# EAGLE library part DPDT_RELAY_PANASONIC_JW2SN-DC9V (library HyTechDevices)
Double Pull Double Throw Relay 9VDC Datasheet <http://www.mouser.com/ds/2/316/jw-catalog-461998.pdf> Product Page <http://www.mouser.com/ProductDetail/Panasonic-Industrial-Devices/JW2SN-DC9V>
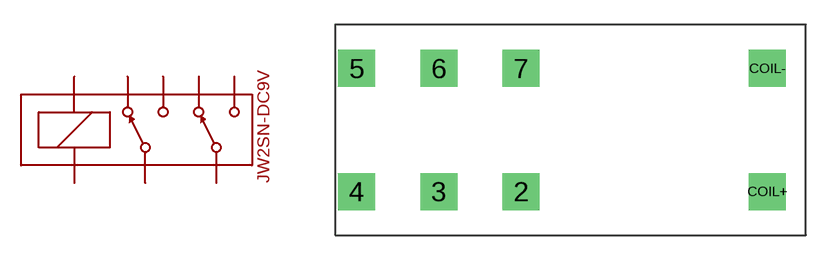
[diagram p7: symbol with the pads of DPDT_RELAY_PANASONIC_JW2SN; footprint DPDT_RELAY_PANASONIC_JW2SN]

Designator prefix -

## DPDT_RELAY_PANASONIC_JW2SN-DC9V  [DPDT_RELAY_PANASONIC_JW2SN]
2  2
3  3
4  4
5  5
6  6
7  7
COIL+  COIL+
COIL-  COIL-

## Footprint DPDT_RELAY_PANASONIC_JW2SN (pad centres in mm)
drill 1.5 square: 2 10.008,0; 3 5.004,0; 4 0,0; 5 0,7.493; 6 5.004,7.493; 7 10.008,7.493; COIL+ 25.019,0; COIL- 25.019,7.493